# EAGLE library part KSZ8851SNL (library Micrel)
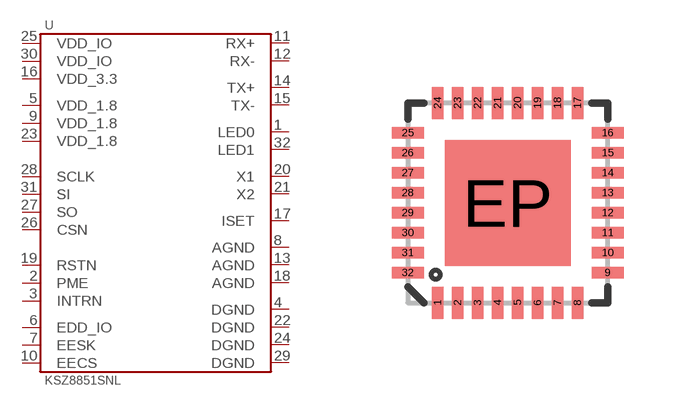
[diagram p2: symbol with the pads of QFN-32; footprint QFN-32]

Designator prefix U

## KSZ8851SNL  [QFN-32]
1  LED0
2  PME
3  INTRN
4  DGND
5  VDD_1.8
6  EDD_IO
7  EESK
8  AGND
9  VDD_1.8
10  EECS
11  RX+
12  RX-
13  AGND
14  TX+
15  TX-
16  VDD_3.3
17  ISET
18  AGND
19  RSTN
20  X1
21  X2
22  DGND
23  VDD_1.8
24  DGND
25  VDD_IO
26  CSN
27  SO
28  SCLK
29  DGND
30  VDD_IO
31  SI
32  LED1

## Footprint QFN-32 (pad centres in mm)
smd 0.285 x 0.8: 1 -1.75,-2.5; 2 -1.25,-2.5; 3 -0.75,-2.5; 4 -0.25,-2.5; 5 0.25,-2.5; 6 0.75,-2.5; 7 1.25,-2.5; 8 1.75,-2.5; 17 1.75,2.5; 18 1.25,2.5; 19 0.75,2.5; 20 0.25,2.5; 21 -0.25,2.5; 22 -0.75,2.5; 23 -1.25,2.5; 24 -1.75,2.5
smd 0.8 x 0.285: 9 2.5,-1.75; 10 2.5,-1.25; 11 2.5,-0.75; 12 2.5,-0.25; 13 2.5,0.25; 14 2.5,0.75; 15 2.5,1.25; 16 2.5,1.75; 25 -2.5,1.75; 26 -2.5,1.25; 27 -2.5,0.75; 28 -2.5,0.25; 29 -2.5,-0.25; 30 -2.5,-0.75; 31 -2.5,-1.25; 32 -2.5,-1.75
smd 3.15 x 3.15: EP 0,0